# EAGLE library part 4016 (library caixa)
Quad bilateral ANALOG SWITCH
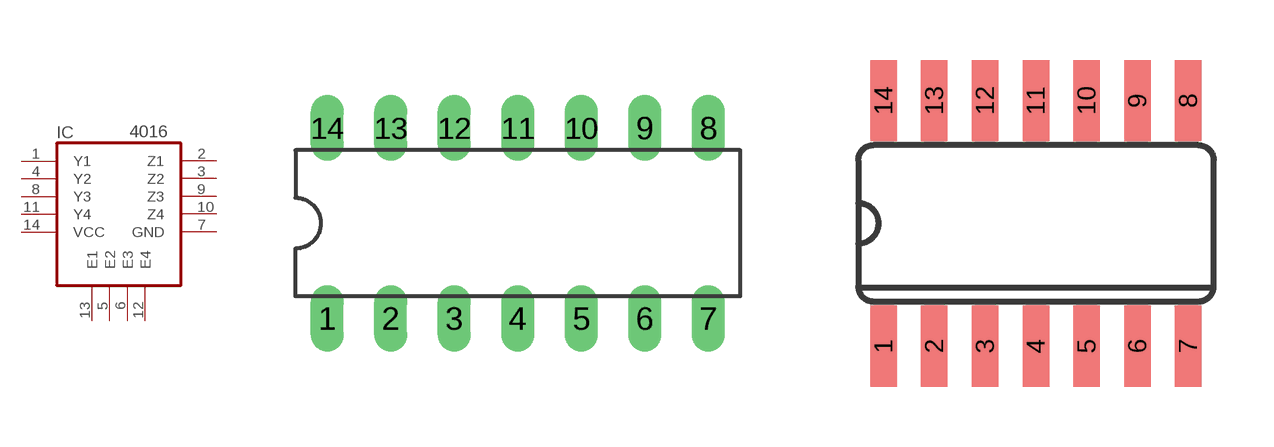
[diagram p9: symbol with the pads of DIL14; footprints DIL14, SO14]

Designator prefix IC

## 4016N  [DIL14]
1  Y1
2  Z1
3  Z2
4  Y2
5  E2
6  E3
7  GND  pwr
8  Y3
9  Z3
10  Z4
11  Y4
12  E4
13  E1
14  VCC  pwr

## 4016D  [SO14]

## Footprint DIL14 (pad centres in mm)
Dual In Line Package
drill 0.813 long: 1 -7.62,-3.81; 2 -5.08,-3.81; 3 -2.54,-3.81; 4 0,-3.81; 5 2.54,-3.81; 6 5.08,-3.81; 7 7.62,-3.81; 8 7.62,3.81; 9 5.08,3.81; 10 2.54,3.81; 11 0,3.81; 12 -2.54,3.81; 13 -5.08,3.81; 14 -7.62,3.81

## Footprint SO14 (pad centres in mm)
Small Outline package 150 mil
smd 0.66 x 2.032: 1 -3.81,-3.073; 2 -2.54,-3.073; 3 -1.27,-3.073; 4 0,-3.073; 5 1.27,-3.073; 6 2.54,-3.073; 7 3.81,-3.073; 8 3.81,3.073; 9 2.54,3.073; 10 1.27,3.073; 11 0,3.073; 12 -1.27,3.073; 13 -2.54,3.073; 14 -3.81,3.073